# Altium schematic symbol library GENERIC_D.Schlib: 1 symbol
Pins are listed as number, name and electrical type; pins without a type are passive.

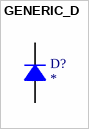
[diagram p0: symbol GENERIC_D]

## GENERIC_D
designator D?
Default Diode
pins: 1 K, 2 A